# Altium footprint library 1_to_5_Pin.PcbLib: 174 footprints (part 2 of 11)
Each footprint in its own frame and in the unit in brackets; x right, y up, seen from the top. Pads: shape width x height; smd on the part's side, far side on the other; paste and mask are expansions set on the pad; w line width, h text height; cw(c..) or ccw(c..) is an arc to the next point about the centre after c.
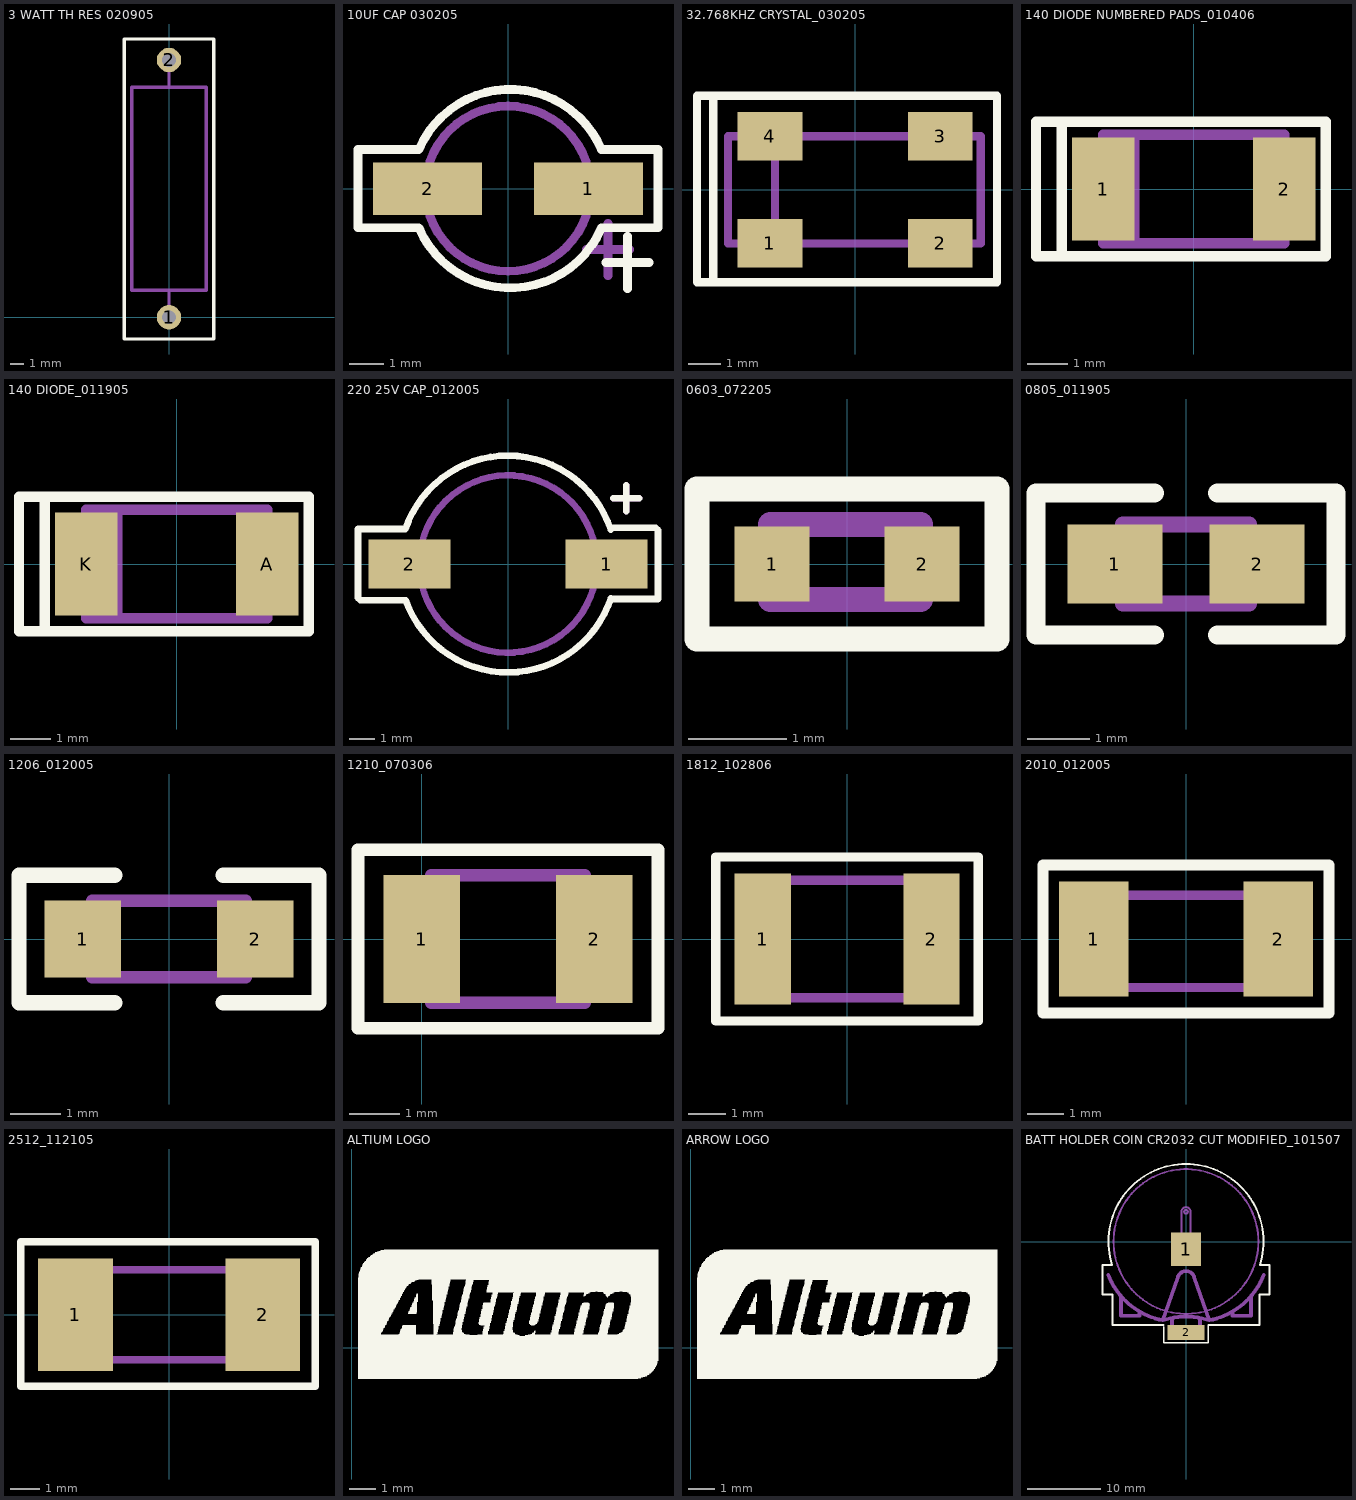
[diagram p1: the footprints below, top view; thin cyan lines are the x and y axes]

## 3 WATT TH RES 020905 [mm] "TH"
height 5.715
pads (2):
  round 1.8 hole 1: 1(0,0) 2(0,19)
Top Overlay:
  lines w0.254: -3.3,-1.6 -3.3,20.55 -1.4,20.55 3.3,20.55 3.3,-1.6 -3.3,-1.6
Assembly Outline:
  lines w0.254: -2,2 2,2 ; -2,17 2,17 ; -1.4,2 1.4,2 0,2 0,0 ; 0,19 0,17 -2.75,17 -2.75,2 2.75,2 2.75,17 2,17 ; 2,17 2,17 ; 2,17 2,17
Assembly Designator:
  text ".Designator" at -0.508,5.588 h1.52
Assembly Comment:
  text ".Comment" at 1.524,5.588 h1.52

## 10UF CAP 030205 [mil] "SMT"
height 300
pads (2):
  rect 125x60 smd: 1(92.5,0) 2(-92.5,0)
Top Overlay:
  lines w10: 112.5,-85 137.5,-85 162.5,-85 ; 137.5,-115 137.5,-55 ; -172.5,-45 -102.5,-45 ccw(c2.5,0) 107.5,-45 172.5,-45 172.5,45 107.5,45 ccw(c2.5,0) -102.5,45 -172.5,45 -172.5,-45
Assembly Outline:
  circle w10: c0,0 r95
  lines w10: -95,-20 -120,-20 -120,20 -95,20 ; 90,-70 140,-70 ; 95,-20 120,-20 120,20 95,20 ; 115,-100 115,-40
Assembly Designator:
  text ".Designator" at -40,-15 h40
Assembly Comment:
  text ".Comment" at -105,-150 h40

## 32.768KHZ CRYSTAL_030205 [mil] "SMT"
height 100
pads (4):
  rect 80x60 smd: 1(-105,-66) 2(105,-66) 3(105,66) 4(-105,66)
Top Overlay:
  lines w10: -175,-114 -195,-114 -195,116 -175,116 ; -175,-114 -175,116 ; -175,-114 175,-114 175,116 85,116 -175,116
Assembly Outline:
  lines w10: -99,-66 -99,66 ; -97,-66 -97,-76 -117,-76 -117,-66 -157,-66 ; -97,66 -97,76 -117,76 -117,66 -157,66 ; 95,-66 95,-76 115,-76 115,-66 155,-66 ; 95,66 95,76 115,76 115,66 155,66 ; -157,-66 -157,66 ; -157,-66 155,-66 ; -157,66 155,66 ; 155,-66 155,66
Assembly Designator:
  text ".Designator" at -115,-15 h40
Assembly Comment:
  text ".Comment" at -160,-130 h40

## 140 DIODE NUMBERED PADS_010406 [mil] "SMT"
height 80
pads (2):
  rect 60x100 smd: 1(-87.5,0) 2(87.5,0)
Top Overlay:
  lines w10: -127.5,-65 -152.5,-65 -152.5,65 -127.5,65 ; -127.5,-65 -127.5,65 ; -127.5,-65 127.5,-65 127.5,65 -77.5,65 -127.5,65
Assembly Outline:
  lines w10: -57.5,-52.5 -57.5,52.5 ; -87.5,-52.5 -87.5,52.5 87.5,52.5 87.5,-52.5 -87.5,-52.5
Assembly Designator:
  text ".Designator" at -30,-20 h40
Assembly Comment:
  text ".Comment" at -100,65 h50

## 140 DIODE_011905 [mil] "SMT"
height 80
pads (2):
  rect 60x100 smd: A(87.5,0) K(-87.5,0)
Top Overlay:
  lines w10: -127.5,-65 127.5,-65 127.5,65 -77.5,65 -127.5,65 ; -127.5,-65 -127.5,65 ; -127.5,-65 -152.5,-65 -152.5,65 -127.5,65
Assembly Outline:
  lines w10: -57.5,-52.5 -57.5,52.5 ; -87.5,-52.5 87.5,-52.5 87.5,52.5 -87.5,52.5 -87.5,-52.5
Assembly Designator:
  text ".Designator" at -30,-20 h40
Assembly Comment:
  text ".Comment" at -100,65 h50

## 220 25V CAP_012005 [mil] "SMT"
height 300
pads (2):
  rect 125x75 smd: 1(150,0) 2(-150,0)
Top Overlay:
  lines w10: 155.57,55.2 224.8,55.2 228.32,51.68 228.32,-53.32 156.15,-53.32 ; 156.53,52.18 ccw(c0,0) -156.15,53.32 -228.32,53.32 -228.32,-51.68 -224.8,-55.2 -155.57,-55.2 ccw(c0,0) 156.6,-52.2 ; 160,100 200,100 ; 180,80 180,120
Assembly Outline:
  circle w10: c0,0 r135
  lines w10: 160,100 200,100 ; 180,80 180,120
Assembly Designator:
  text ".Designator" at -65,40 h40
Assembly Comment:
  text ".Comment" at -115,-10 h40

## 0603_072205 [mil] "SM"
height 20
pads (2):
  rect 30x30 smd: 1(-30,0) 2(30,0)
Top Overlay:
  lines w10: -60,-30 60,-30 60,30 -60,30 -60,0 -60,-30
Assembly Outline:
  lines w10: -30.53,-14.25 -30.53,15.75 29.47,15.75 29.47,-14.25 -30.53,-14.25
Assembly Designator:
  text ".Designator" at -28.54,-13.78 h30
Assembly Comment:
  text ".Comment" at -55.12,-73.82 h40

## 0805_011905 [mil] "SMT"
height 26
pads (2):
  rect 60x50 smd: 1(-45,0) 2(45,0)
Top Overlay:
  lines w12: -20,-45 -95,-45 -95,45 -20,45 ; 20,-45 95,-45 95,45 20,45
Assembly Outline:
  lines w10: -40,-25 -40,25 40,25 40,-25 -40,-25
Assembly Designator:
  text ".Designator" at -58.07,43.31 h40
Assembly Comment:
  text ".Comment" at -77.76,-85.63 h40

## 1206_012005 [mil] "SMT"
height 25
pads (2):
  rect 60x60 smd: 1(-67.5,0) 2(67.5,0)
Top Overlay:
  lines w12: -42.5,-50 -117.5,-50 -117.5,50 -42.5,50 ; 42.5,-50 117.5,-50 117.5,50 42.5,50
Assembly Outline:
  lines w10: -60,-30 60,-30 60,30 -60,30 -60,-30
Assembly Designator:
  text ".Designator" at -50,40 h40
Assembly Comment:
  text ".Comment" at -50,-80 h40

## 1210_070306 [mil] "SMT"
height 39.37
pads (2):
  rect 60x100 smd: 1(0,0) 2(135,0)
Top Overlay:
  lines w10: -50,-70 110,-70 185,-70 185,70 110,70 -50,70 -50,-70
Assembly Outline:
  lines w10: 67.5,50 7.5,50 ; 127.5,0 127.5,-50 ; 7.5,50 7.5,-50 127.5,-50 ; 7.5,50 127.5,50 127.5,-50
Assembly Designator:
  text ".Designator" at 29.72,-19.06 h40
Assembly Comment:
  text ".Comment" at 19.68,-111.22 h40

## 1812_102806 [mil] "SMT"
height 86
pads (2):
  rect 60x140 smd: 1(-90,0) 2(90,0)
Top Overlay:
  lines w10: -140,-87.5 0,-87.5 140,-87.5 140,0 140,87.5 0,87.5 -140,87.5 -140,0 -140,-87.5
Assembly Outline:
  lines w10: 0,62.5 -90,62.5 ; -90,62.5 -90,-62.5 90,-62.5 90,62.5 -90,62.5
Assembly Designator:
  text ".Designator" at -40,-17.5 h40
Assembly Comment:
  text ".Comment" at -95,-122.5 h40

## 2010_012005 [mil] "SMT"
height 50
pads (2):
  rect 75x125 smd: 1(-100,0) 2(100,0)
Top Overlay:
  lines w12: -155,-80 -155,80 -60,80 155,80 155,-80 -155,-80
Assembly Outline:
  lines w10: -100,-52.5 100,-52.5 100,47.5 -100,47.5 -100,-52.5
Assembly Designator:
  text ".Designator" at -55,-15 h40
Assembly Comment:
  text ".Comment" at -150,-105 h40

## 2512_112105 [mil] "SMT"
height 50
pads (2):
  rect 100x150 smd: 1(-125,0) 2(125,0)
Top Overlay:
  lines w10: -197.5,-95 -197.5,97.5 195,97.5 195,-95 -197.5,-95
Assembly Outline:
  lines w10: -125,-60 125,-60 125,60 -125,60 -125,-60
Assembly Designator:
  text ".Designator" at -37.4,-17.72 h40
Assembly Comment:
  text ".Comment" at -172.24,-137.8 h40

## ALTIUM LOGO [mil] "LOGO"
Top Overlay:
  drawing of 845 lines, arcs and shapes, not listed

## ARROW LOGO [mil] "LOGO"
Top Overlay:
  drawing of 845 lines, arcs and shapes, not listed

## BATT HOLDER COIN CR2032 CUT MODIFIED_101507 [mil] "SMT"
height 130
pads (2):
  rect 160x180 smd: 1(0,-42)
  rect 200x80 smd: 2(0,-490)
Top Overlay:
  lines w10: -120,-460 -120,-545 0,-545 120,-545 120,-460 120,-450 395,-450 395,-285 450,-285 450,-126.17 397.91,-126.17 ccw(c0,0) 0,417.43 ccw(c0,0) -397.91,-126.17 -450,-126.17 -450,-285 -395,-285 -395,-450 -120,-450
Assembly Outline:
  circle w10: c-0.03,0 r390
  circle w10: c0,160 r10
  lines w10: -75,-15 -75,-100 ; -75,-100 0,-100 50,-100 75,-75 75,-55 75,20 45,20 45,-15 25,-15 25,160 ccw(c0,160) 0,185 ccw(c0,160) -25,160 -25,-15 -45,-15 -45,20 -75,20 -75,-100
  lines w20: -418.79,-179.54 ccw(c-48.32,-34.27) -125.06,-424.73 ; -350,-300 -350,-400 -250,-400 -250,-380 ; -75.03,-415 -75.03,-490 74.97,-490 74.97,-415 ; 250,-380 250,-400 350,-400 350,-300 ; 418.79,-179.54 cw(c48.32,-34.27) 125.06,-424.73 ; -125.06,-424.73 cw(c2,-801.07) 0,-403.87 cw(c-2,-801.07) 125.06,-424.73 ; -125.06,-424.73 -45.04,-195.84 cw(c0.06,-205.47) 44.97,-195 125.06,-424.73
Assembly Designator:
  text ".Designator" at -45,-185 h40
Assembly Comment:
  text ".Comment" at -180,230 h40